# EAGLE library part CX90M-16P (library connectors)
USB-C (USB TYPE-C) USB 3.1 (USB 3.1 Gen 2, Superspeed+) Receptacle Connector 24 (16+8 Dummy) Position Board Edge, Cutout; Surface Mount; Through Hole, Right Angle Check prices <https://pricing.snapeda.com/parts/CX90M-16P/Hirose%20Electric%20Co%20Ltd/view-part?ref=eda>
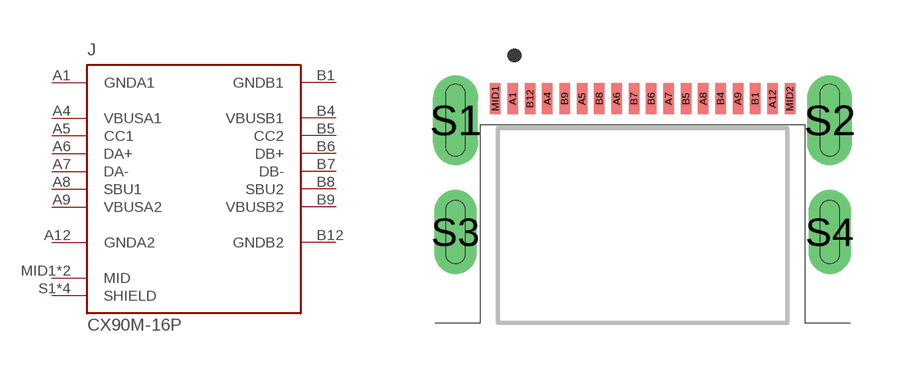
[diagram p19: symbol with the pads of HRS_CX90M-16P; footprint HRS_CX90M-16P]

Designator prefix J

## CX90M-16P (AVAILABILITY: Warning; DESCRIPTION: USB-C (USB TYPE-C) USB 3.2 Gen 2 (USB 3.1 Gen 2, Superspeed + (USB 3.1)) Receptacle Connector 24 (16+8 Dummy) Position Board Edge, Cutout; Surface Mount; Through Hole, Right Angle; MF: Hirose Electric Co Ltd; MP: CX90M-16P; PACKAGE: None; PRICE: None; PURCHASE-URL: https://pricing.snapeda.com/search/part/CX90M-16P/?ref=eda)  [HRS_CX90M-16P]
A1  GNDA1  pwr
A4  VBUSA1  pwr
A5  CC1
A6  DA+
A7  DA-
A8  SBU1
A9  VBUSA2  pwr
A12  GNDA2  pwr
B1  GNDB1  pwr
B4  VBUSB1  pwr
B5  CC2
B6  DB+
B7  DB-
B8  SBU2
B9  VBUSB2  pwr
B12  GNDB2  pwr
MID1  MID  pas
MID2  MID  pas
S1  SHIELD  pas
S2  SHIELD  pas
S3  SHIELD  pas
S4  SHIELD  pas

## Footprint HRS_CX90M-16P (pad centres in mm)
smd 0.3 x 0.9: A1 -3.75,3.85; A4 -2.75,3.85; A5 -1.75,3.85; A6 -0.75,3.85; A7 0.75,3.85; A8 1.75,3.85; A9 2.75,3.85; A12 3.75,3.85; B1 3.25,3.85; B4 2.25,3.85; B5 1.25,3.85; B6 0.25,3.85; B7 -0.25,3.85; B8 -1.25,3.85; B9 -2.25,3.85; B12 -3.25,3.85; MID1 -4.25,3.85; MID2 4.25,3.85
drill 0.55 pad 1.3 long: S1 -5.4,3.23; S2 5.4,3.23
drill 0.55 pad 1.225 long: S3 -5.4,0; S4 5.4,0